# Altium schematic symbol library Diodes.SchLib: 17 symbols
Pins are listed as number, name and electrical type; pins without a type are passive.

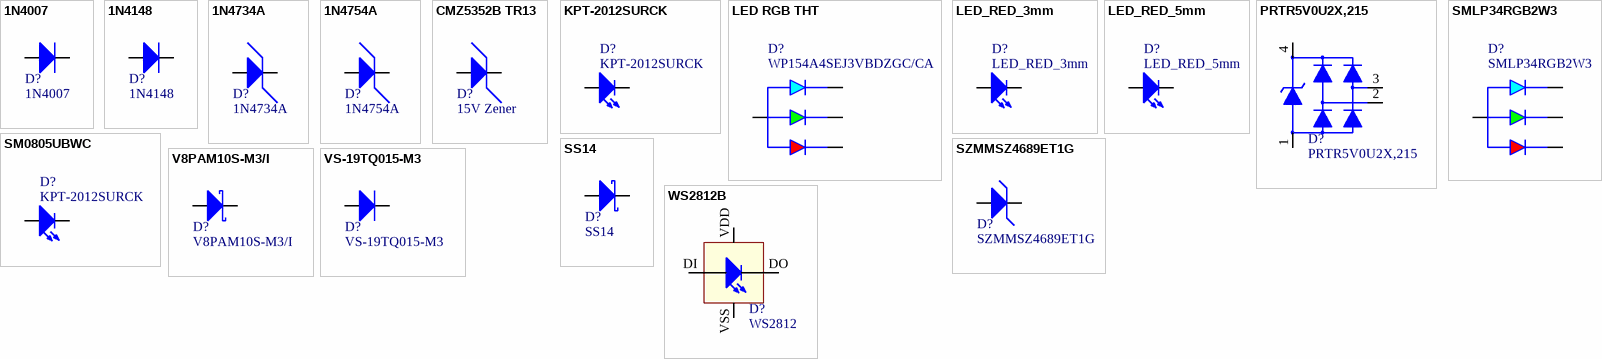
[diagram p0: symbols 1N4007 to WS2812B]

## 1N4007
designator D?
1000V 1A
footprint DO-41
pins: A, C

## 1N4148
designator D?
100V 200mA
footprint SOD-80
pins: A, C

## 1N4734A
designator D?
5.6V 1W Zener
footprint DO-41
pins: A, C

## 1N4754A
designator D?
39V 1W Zener
footprint DO-41
pins: A, C

## CMZ5352B TR13
designator D?, comment 15V Zener
Zener Diodes HI PWR SILICON ZENER Diode 10W SMC15V
footprint SMC
pins: A, C

## KPT-2012SURCK
designator D?
LED RED 0805
footprint 0805
pins: A, C

## LED RGB THT
designator D?, comment WP154A4SEJ3VBDZGC/CA
LED RGB 5mm Common Anode; Code: XE_D0004
footprint LED_RGB_5mm
pins: A, B, G, R

## LED_RED_3mm
designator D?
LED RED 3mm
footprint LED_RED_3MM
pins: A, C

## LED_RED_5mm
designator D?
LED RED 5mm
footprint LED_RED_5MM
pins: A, C

## PRTR5V0U2X,215
designator D?
TVS ARRAY 4LIN.8kV 1pF SOT143B
footprint PRTR5V0U2X,215
pins: 1, 2, 3, 4

## SM0805UBWC
designator D?, comment KPT-2012SURCK
LED BLUE 0805
footprint 0805
pins: A, C

## SMLP34RGB2W3
designator D?
LED RGB DIFFUSED PICOLED SMD
footprint SMLP34RGB2W3
pins: 1 A, 2 RED_C, 3 BLUE_C, 4 GREEN_C

## SS14
designator D?
Schottky SMA 40V 1.0A
footprint SMA
pins: A, C

## SZMMSZ4689ET1G
designator D?
SOD-123-2 5.1V Zener
footprint SOD123-2
pins: A, C

## V8PAM10S-M3/I
designator D?
Schottky SMPA 100V 8.0A
footprint SMPA
pins: A, C

## VS-19TQ015-M3
designator D?
15V 19A
footprint TO-220
pins: A, C

## WS2812B
designator D?, comment WS2812
Smart LED RGB
footprint WS2812B
pins: DI 3, DO 1, VDD 4, VSS 2